# EAGLE library part L6986H (library L6986H)
38 V, 2 A synchronous step-down switching regulator with 30 µA quiescent current Source: Datasheet <https://www.st.com/resource/en/datasheet/l6986h.pdf>
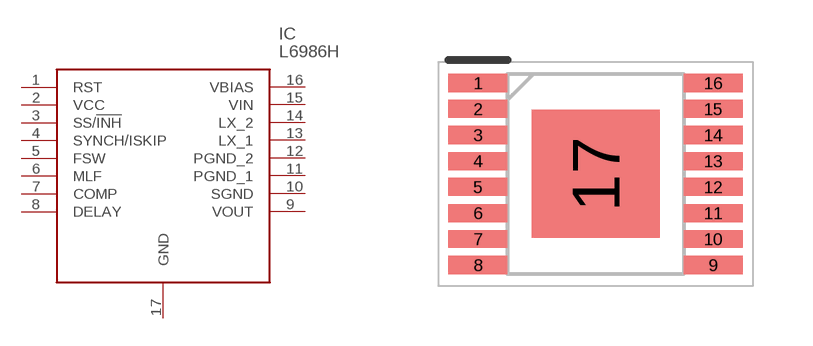
[diagram p0: symbol with the pads of SOP65P640X120-17N; footprint SOP65P640X120-17N]

Designator prefix IC

## L6986H (Arrow_Part_Number: L6986H; Arrow_Price-Stock: https://www.arrow.com/en/products/l6986h/stmicroelectronics?region=nac; Description: 38 V, 2 A synchronous step-down switching regulator with 30 &#181;A quiescent current; Height: 1.2mm; Manufacturer_Name: STMicroelectronics; Manufacturer_Part_Number: L6986H; Mouser_Part_Number: 511-L6986H; Mouser_Price-Stock: https://www.mouser.co.uk/ProductDetail/STMicroelectronics/L6986H?qs=vLWxofP3U2yqeL91wKwlTQ%3D%3D)  [SOP65P640X120-17N]
1  RST
2  VCC
3  SS/!INH
4  SYNCH/ISKIP
5  FSW
6  MLF
7  COMP
8  DELAY
9  VOUT
10  SGND
11  PGND_1
12  PGND_2
13  LX_1
14  LX_2
15  VIN
16  VBIAS
17  GND

## Footprint SOP65P640X120-17N (pad centres in mm)
HTSSOP16 package information
smd 1.475 x 0.45: 1 -2.938,2.275; 2 -2.938,1.625; 3 -2.938,0.975; 4 -2.938,0.325; 5 -2.938,-0.325; 6 -2.938,-0.975; 7 -2.938,-1.625; 8 -2.938,-2.275; 9 2.938,-2.275; 10 2.938,-1.625; 11 2.938,-0.975; 12 2.938,-0.325; 13 2.938,0.325; 14 2.938,0.975; 15 2.938,1.625; 16 2.938,2.275
smd 3.2 x 3.2: 17 0,0